# Altium integrated library FPGA Memories.IntLib: 600 symbols (part 3 of 6)
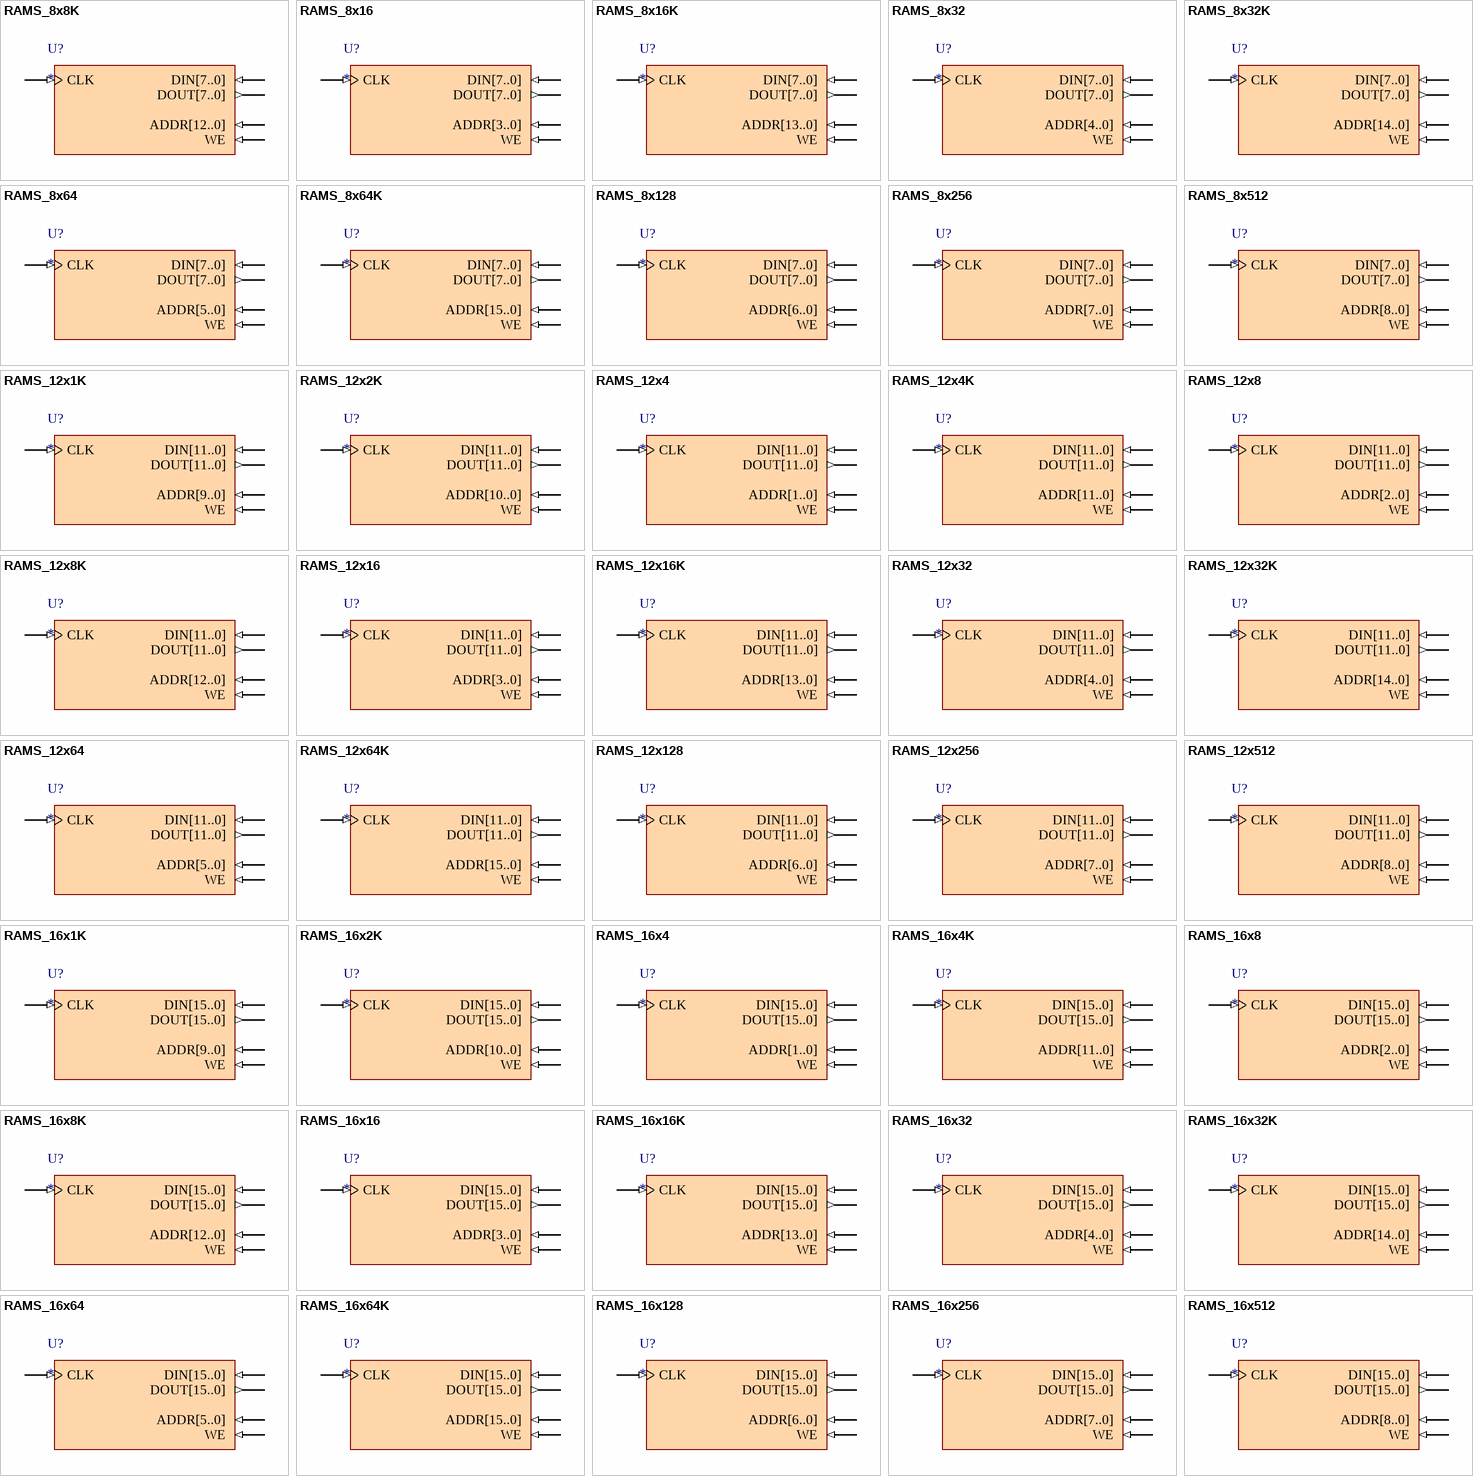
[diagram p22: symbols RAMS_8x8K to RAMS_16x512]

## RAMS_12x2K
designator U?
Single Port RAM; Memory_Depth: 2048; Memory_Type: RAM_SinglePortBlock; Memory_Width: 12; Memory_ClockEdge: Rising; Nexus_Core: Memory_Program; Memory_EnablePin: False; Published: 11/10/2004; Publisher: Altium Hobart Technology Center; Memory_ByteWrites: False
pins: ADDR[10..0] (in), CLK (in), DIN[11..0] (in), DOUT[11..0] (out), WE (in)

## RAMS_12x4
designator U?
Single Port RAM; Memory_Depth: 4; Memory_Type: RAM_SinglePortBlock; Memory_Width: 12; Memory_ClockEdge: Rising; Nexus_Core: Memory_Program; Memory_EnablePin: False; Published: 11/10/2004; Publisher: Altium Hobart Technology Center; Memory_ByteWrites: False
pins: ADDR[1..0] (in), CLK (in), DIN[11..0] (in), DOUT[11..0] (out), WE (in)

## RAMS_12x4K
designator U?
Single Port RAM; Memory_Depth: 4096; Memory_Type: RAM_SinglePortBlock; Memory_Width: 12; Memory_ClockEdge: Rising; Nexus_Core: Memory_Program; Memory_EnablePin: False; Published: 11/10/2004; Publisher: Altium Hobart Technology Center; Memory_ByteWrites: False
pins: ADDR[11..0] (in), CLK (in), DIN[11..0] (in), DOUT[11..0] (out), WE (in)

## RAMS_12x8
designator U?
Single Port RAM; Memory_Depth: 8; Memory_Type: RAM_SinglePortBlock; Memory_Width: 12; Memory_ClockEdge: Rising; Nexus_Core: Memory_Program; Memory_EnablePin: False; Published: 11/10/2004; Publisher: Altium Hobart Technology Center; Memory_ByteWrites: False
pins: ADDR[2..0] (in), CLK (in), DIN[11..0] (in), DOUT[11..0] (out), WE (in)

## RAMS_12x8K
designator U?
Single Port RAM; Memory_Depth: 8192; Memory_Type: RAM_SinglePortBlock; Memory_Width: 12; Memory_ClockEdge: Rising; Nexus_Core: Memory_Program; Memory_EnablePin: False; Published: 11/10/2004; Publisher: Altium Hobart Technology Center; Memory_ByteWrites: False
pins: ADDR[12..0] (in), CLK (in), DIN[11..0] (in), DOUT[11..0] (out), WE (in)

## RAMS_12x16
designator U?
Single Port RAM; Memory_Depth: 16; Memory_Type: RAM_SinglePortBlock; Memory_Width: 12; Memory_ClockEdge: Rising; Nexus_Core: Memory_Program; Memory_EnablePin: False; Published: 11/10/2004; Publisher: Altium Hobart Technology Center; Memory_ByteWrites: False
pins: ADDR[3..0] (in), CLK (in), DIN[11..0] (in), DOUT[11..0] (out), WE (in)

## RAMS_12x16K
designator U?
Single Port RAM; Memory_Depth: 16384; Memory_Type: RAM_SinglePortBlock; Memory_Width: 12; Memory_ClockEdge: Rising; Nexus_Core: Memory_Program; Memory_EnablePin: False; Published: 11/10/2004; Publisher: Altium Hobart Technology Center; Memory_ByteWrites: False
pins: ADDR[13..0] (in), CLK (in), DIN[11..0] (in), DOUT[11..0] (out), WE (in)

## RAMS_12x32
designator U?
Single Port RAM; Memory_Depth: 32; Memory_Type: RAM_SinglePortBlock; Memory_Width: 12; Memory_ClockEdge: Rising; Nexus_Core: Memory_Program; Memory_EnablePin: False; Published: 11/10/2004; Publisher: Altium Hobart Technology Center; Memory_ByteWrites: False
pins: ADDR[4..0] (in), CLK (in), DIN[11..0] (in), DOUT[11..0] (out), WE (in)

## RAMS_12x32K
designator U?
Single Port RAM; Memory_Depth: 32768; Memory_Type: RAM_SinglePortBlock; Memory_Width: 12; Memory_ClockEdge: Rising; Nexus_Core: Memory_Program; Memory_EnablePin: False; Published: 11/10/2004; Publisher: Altium Hobart Technology Center; Memory_ByteWrites: False
pins: ADDR[14..0] (in), CLK (in), DIN[11..0] (in), DOUT[11..0] (out), WE (in)

## RAMS_12x64
designator U?
Single Port RAM; Memory_Depth: 64; Memory_Type: RAM_SinglePortBlock; Memory_Width: 12; Memory_ClockEdge: Rising; Nexus_Core: Memory_Program; Memory_EnablePin: False; Published: 11/10/2004; Publisher: Altium Hobart Technology Center; Memory_ByteWrites: False
pins: ADDR[5..0] (in), CLK (in), DIN[11..0] (in), DOUT[11..0] (out), WE (in)

## RAMS_12x64K
designator U?
Single Port RAM; Memory_Depth: 65536; Memory_Type: RAM_SinglePortBlock; Memory_Width: 12; Memory_ClockEdge: Rising; Nexus_Core: Memory_Program; Memory_EnablePin: False; Published: 11/10/2004; Publisher: Altium Hobart Technology Center; Memory_ByteWrites: False
pins: ADDR[15..0] (in), CLK (in), DIN[11..0] (in), DOUT[11..0] (out), WE (in)

## RAMS_12x128
designator U?
Single Port RAM; Memory_Depth: 128; Memory_Type: RAM_SinglePortBlock; Memory_Width: 12; Memory_ClockEdge: Rising; Nexus_Core: Memory_Program; Memory_EnablePin: False; Published: 11/10/2004; Publisher: Altium Hobart Technology Center; Memory_ByteWrites: False
pins: ADDR[6..0] (in), CLK (in), DIN[11..0] (in), DOUT[11..0] (out), WE (in)

## RAMS_12x256
designator U?
Single Port RAM; Memory_Depth: 256; Memory_Type: RAM_SinglePortBlock; Memory_Width: 12; Memory_ClockEdge: Rising; Nexus_Core: Memory_Program; Memory_EnablePin: False; Published: 11/10/2004; Publisher: Altium Hobart Technology Center; Memory_ByteWrites: False
pins: ADDR[7..0] (in), CLK (in), DIN[11..0] (in), DOUT[11..0] (out), WE (in)

## RAMS_12x512
designator U?
Single Port RAM; Memory_Depth: 512; Memory_Type: RAM_SinglePortBlock; Memory_Width: 12; Memory_ClockEdge: Rising; Nexus_Core: Memory_Program; Memory_EnablePin: False; Published: 11/10/2004; Publisher: Altium Hobart Technology Center; Memory_ByteWrites: False
pins: ADDR[8..0] (in), CLK (in), DIN[11..0] (in), DOUT[11..0] (out), WE (in)

## RAMS_16x1K
designator U?
Single Port RAM; Memory_Depth: 1024; Memory_Type: RAM_SinglePortBlock; Memory_Width: 16; Memory_ClockEdge: Rising; Nexus_Core: Memory_Program; Memory_EnablePin: False; Published: 11/10/2004; Publisher: Altium Hobart Technology Center; Memory_ByteWrites: False
pins: ADDR[9..0] (in), CLK (in), DIN[15..0] (in), DOUT[15..0] (out), WE (in)

## RAMS_16x2K
designator U?
Single Port RAM; Memory_Depth: 2048; Memory_Type: RAM_SinglePortBlock; Memory_Width: 16; Memory_ClockEdge: Rising; Nexus_Core: Memory_Program; Memory_EnablePin: False; Published: 11/10/2004; Publisher: Altium Hobart Technology Center; Memory_ByteWrites: False
pins: ADDR[10..0] (in), CLK (in), DIN[15..0] (in), DOUT[15..0] (out), WE (in)

## RAMS_16x4
designator U?
Single Port RAM; Memory_Depth: 4; Memory_Type: RAM_SinglePortBlock; Memory_Width: 16; Memory_ClockEdge: Rising; Nexus_Core: Memory_Program; Memory_EnablePin: False; Published: 11/10/2004; Publisher: Altium Hobart Technology Center; Memory_ByteWrites: False
pins: ADDR[1..0] (in), CLK (in), DIN[15..0] (in), DOUT[15..0] (out), WE (in)

## RAMS_16x4K
designator U?
Single Port RAM; Memory_Depth: 4096; Memory_Type: RAM_SinglePortBlock; Memory_Width: 16; Memory_ClockEdge: Rising; Nexus_Core: Memory_Program; Memory_EnablePin: False; Published: 11/10/2004; Publisher: Altium Hobart Technology Center; Memory_ByteWrites: False
pins: ADDR[11..0] (in), CLK (in), DIN[15..0] (in), DOUT[15..0] (out), WE (in)

## RAMS_16x8
designator U?
Single Port RAM; Memory_Depth: 8; Memory_Type: RAM_SinglePortBlock; Memory_Width: 16; Memory_ClockEdge: Rising; Nexus_Core: Memory_Program; Memory_EnablePin: False; Published: 11/10/2004; Publisher: Altium Hobart Technology Center; Memory_ByteWrites: False
pins: ADDR[2..0] (in), CLK (in), DIN[15..0] (in), DOUT[15..0] (out), WE (in)

## RAMS_16x8K
designator U?
Single Port RAM; Memory_Depth: 8192; Memory_Type: RAM_SinglePortBlock; Memory_Width: 16; Memory_ClockEdge: Rising; Nexus_Core: Memory_Program; Memory_EnablePin: False; Published: 11/10/2004; Publisher: Altium Hobart Technology Center; Memory_ByteWrites: False
pins: ADDR[12..0] (in), CLK (in), DIN[15..0] (in), DOUT[15..0] (out), WE (in)

## RAMS_16x16
designator U?
Single Port RAM; Memory_Depth: 16; Memory_Type: RAM_SinglePortBlock; Memory_ClockEdge: Rising; Nexus_Core: Memory_Program; Memory_EnablePin: False; Published: 11/10/2004; Publisher: Altium Hobart Technology Center; Memory_Width: 16; Memory_ByteWrites: False
pins: ADDR[3..0] (in), CLK (in), DIN[15..0] (in), DOUT[15..0] (out), WE (in)

## RAMS_16x16K
designator U?
Single Port RAM; Memory_Depth: 16384; Memory_Type: RAM_SinglePortBlock; Memory_Width: 16; Memory_ClockEdge: Rising; Nexus_Core: Memory_Program; Memory_EnablePin: False; Published: 11/10/2004; Publisher: Altium Hobart Technology Center; Memory_ByteWrites: False
pins: ADDR[13..0] (in), CLK (in), DIN[15..0] (in), DOUT[15..0] (out), WE (in)

## RAMS_16x32
designator U?
Single Port RAM; Memory_Depth: 32; Memory_Type: RAM_SinglePortBlock; Memory_Width: 16; Memory_ClockEdge: Rising; Nexus_Core: Memory_Program; Memory_EnablePin: False; Published: 11/10/2004; Publisher: Altium Hobart Technology Center; Memory_ByteWrites: False
pins: ADDR[4..0] (in), CLK (in), DIN[15..0] (in), DOUT[15..0] (out), WE (in)

## RAMS_16x32K
designator U?
Single Port RAM; Memory_Depth: 32768; Memory_Type: RAM_SinglePortBlock; Memory_Width: 16; Memory_ClockEdge: Rising; Nexus_Core: Memory_Program; Memory_EnablePin: False; Published: 11/10/2004; Publisher: Altium Hobart Technology Center; Memory_ByteWrites: False
pins: ADDR[14..0] (in), CLK (in), DIN[15..0] (in), DOUT[15..0] (out), WE (in)

## RAMS_16x64
designator U?
Single Port RAM; Memory_Depth: 64; Memory_Type: RAM_SinglePortBlock; Memory_Width: 16; Memory_ClockEdge: Rising; Nexus_Core: Memory_Program; Memory_EnablePin: False; Published: 11/10/2004; Publisher: Altium Hobart Technology Center; Memory_ByteWrites: False
pins: ADDR[5..0] (in), CLK (in), DIN[15..0] (in), DOUT[15..0] (out), WE (in)

## RAMS_16x64K
designator U?
Single Port RAM; Memory_Depth: 65536; Memory_Type: RAM_SinglePortBlock; Memory_Width: 16; Memory_ClockEdge: Rising; Nexus_Core: Memory_Program; Memory_EnablePin: False; Published: 11/10/2004; Publisher: Altium Hobart Technology Center; Memory_ByteWrites: False
pins: ADDR[15..0] (in), CLK (in), DIN[15..0] (in), DOUT[15..0] (out), WE (in)

## RAMS_16x128
designator U?
Single Port RAM; Memory_Depth: 128; Memory_Type: RAM_SinglePortBlock; Memory_Width: 16; Memory_ClockEdge: Rising; Nexus_Core: Memory_Program; Memory_EnablePin: False; Published: 11/10/2004; Publisher: Altium Hobart Technology Center; Memory_ByteWrites: False
pins: ADDR[6..0] (in), CLK (in), DIN[15..0] (in), DOUT[15..0] (out), WE (in)

## RAMS_16x256
designator U?
Single Port RAM; Memory_Depth: 256; Memory_Type: RAM_SinglePortBlock; Memory_Width: 16; Memory_ClockEdge: Rising; Nexus_Core: Memory_Program; Memory_EnablePin: False; Published: 11/10/2004; Publisher: Altium Hobart Technology Center; Memory_ByteWrites: False
pins: ADDR[7..0] (in), CLK (in), DIN[15..0] (in), DOUT[15..0] (out), WE (in)

## RAMS_16x512
designator U?
Single Port RAM; Memory_Depth: 512; Memory_Type: RAM_SinglePortBlock; Memory_Width: 16; Memory_ClockEdge: Rising; Nexus_Core: Memory_Program; Memory_EnablePin: False; Published: 11/10/2004; Publisher: Altium Hobart Technology Center; Memory_ByteWrites: False
pins: ADDR[8..0] (in), CLK (in), DIN[15..0] (in), DOUT[15..0] (out), WE (in)

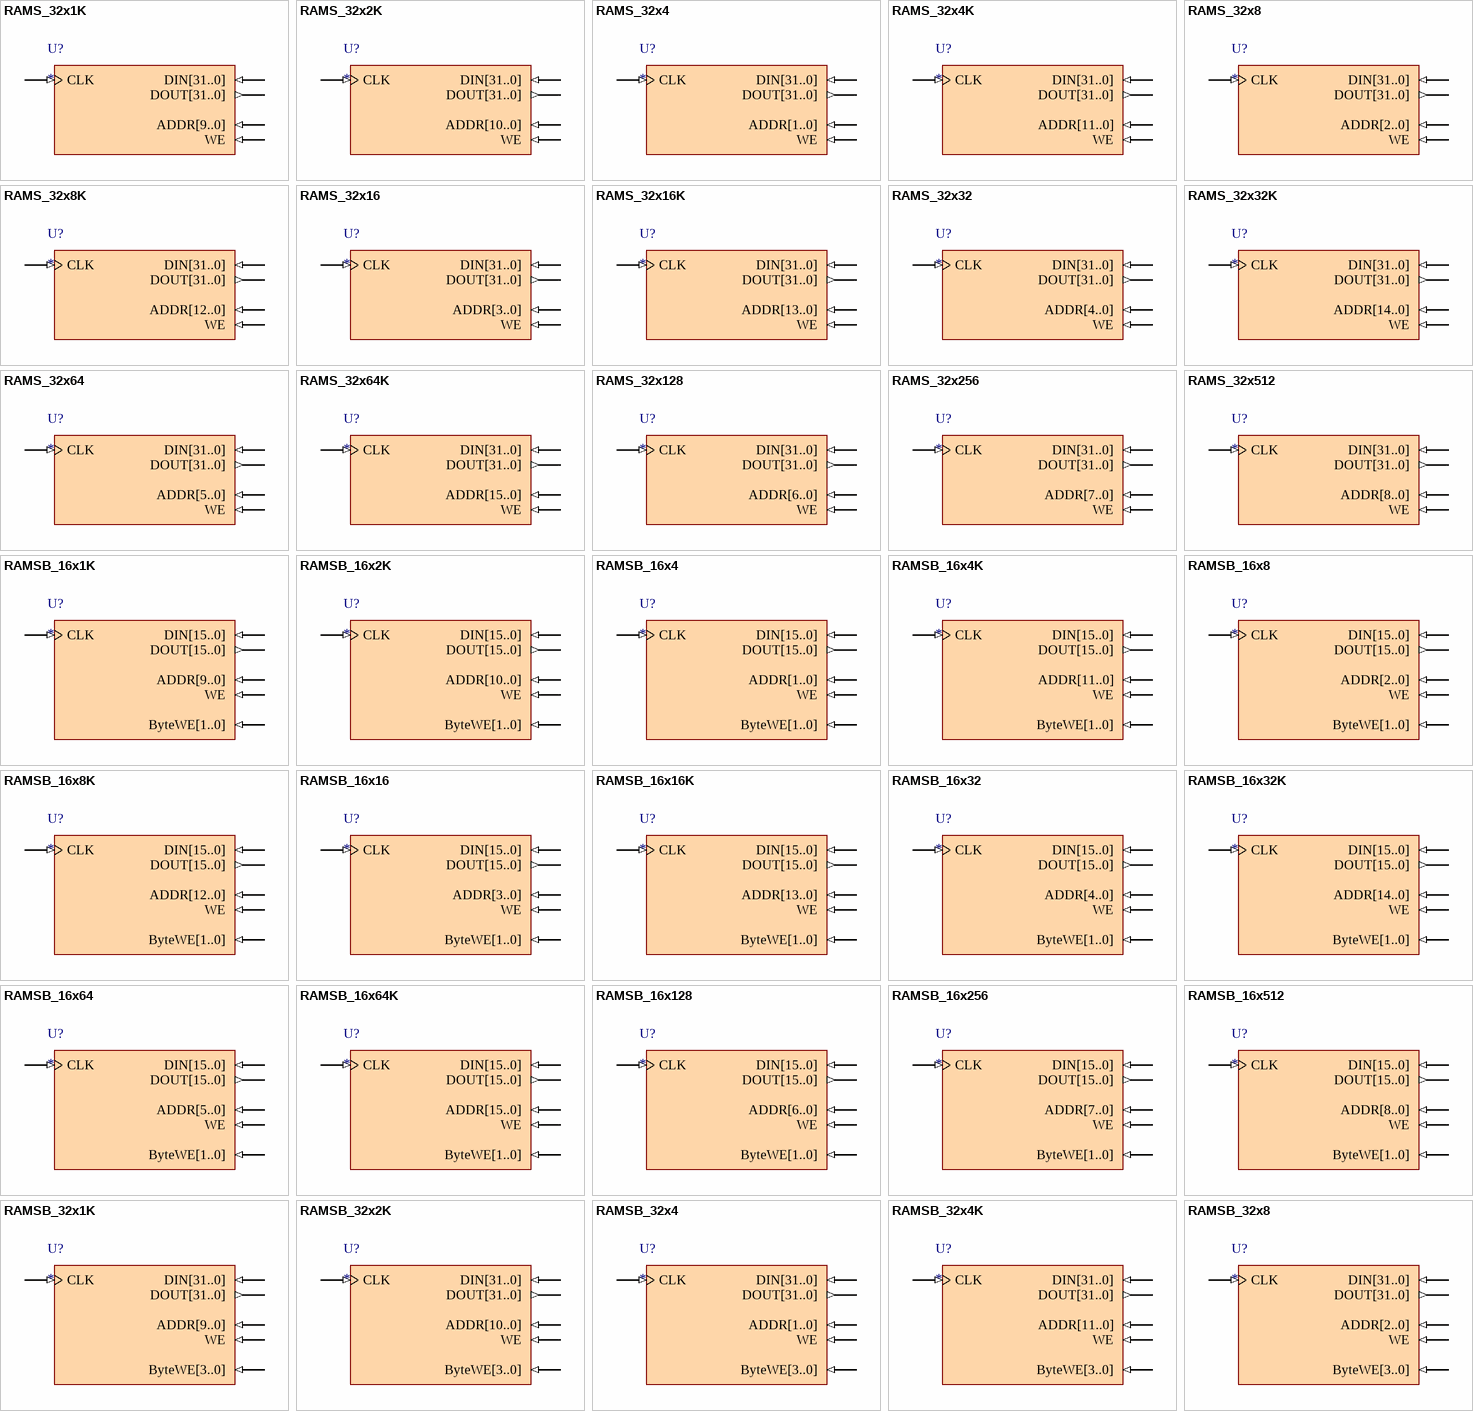
[diagram p9: symbols RAMS_32x1K to RAMSB_32x8]

## RAMS_32x1K
designator U?
Single Port RAM; Memory_Depth: 1024; Memory_Type: RAM_SinglePortBlock; Memory_Width: 32; Memory_ClockEdge: Rising; Nexus_Core: Memory_Program; Memory_EnablePin: False; Published: 11/10/2004; Publisher: Altium Hobart Technology Center; Memory_ByteWrites: False
pins: ADDR[9..0] (in), CLK (in), DIN[31..0] (in), DOUT[31..0] (out), WE (in)

## RAMS_32x2K
designator U?
Single Port RAM; Memory_Depth: 2048; Memory_Type: RAM_SinglePortBlock; Memory_Width: 32; Memory_ClockEdge: Rising; Nexus_Core: Memory_Program; Memory_EnablePin: False; Published: 11/10/2004; Publisher: Altium Hobart Technology Center; Memory_ByteWrites: False
pins: ADDR[10..0] (in), CLK (in), DIN[31..0] (in), DOUT[31..0] (out), WE (in)

## RAMS_32x4
designator U?
Single Port RAM; Memory_Depth: 4; Memory_Type: RAM_SinglePortBlock; Memory_Width: 32; Memory_ClockEdge: Rising; Nexus_Core: Memory_Program; Memory_EnablePin: False; Published: 11/10/2004; Publisher: Altium Hobart Technology Center; Memory_ByteWrites: False
pins: ADDR[1..0] (in), CLK (in), DIN[31..0] (in), DOUT[31..0] (out), WE (in)

## RAMS_32x4K
designator U?
Single Port RAM; Memory_Depth: 4096; Memory_Type: RAM_SinglePortBlock; Memory_Width: 32; Memory_ClockEdge: Rising; Nexus_Core: Memory_Program; Memory_EnablePin: False; Published: 11/10/2004; Publisher: Altium Hobart Technology Center; Memory_ByteWrites: False
pins: ADDR[11..0] (in), CLK (in), DIN[31..0] (in), DOUT[31..0] (out), WE (in)

## RAMS_32x8
designator U?
Single Port RAM; Memory_Depth: 8; Memory_Type: RAM_SinglePortBlock; Memory_Width: 32; Memory_ClockEdge: Rising; Nexus_Core: Memory_Program; Memory_EnablePin: False; Published: 11/10/2004; Publisher: Altium Hobart Technology Center; Memory_ByteWrites: False
pins: ADDR[2..0] (in), CLK (in), DIN[31..0] (in), DOUT[31..0] (out), WE (in)

## RAMS_32x8K
designator U?
Single Port RAM; Memory_Depth: 8192; Memory_Type: RAM_SinglePortBlock; Memory_Width: 32; Memory_ClockEdge: Rising; Nexus_Core: Memory_Program; Memory_EnablePin: False; Published: 11/10/2004; Publisher: Altium Hobart Technology Center; Memory_ByteWrites: False
pins: ADDR[12..0] (in), CLK (in), DIN[31..0] (in), DOUT[31..0] (out), WE (in)

## RAMS_32x16
designator U?
Single Port RAM; Memory_Depth: 16; Memory_Type: RAM_SinglePortBlock; Memory_Width: 32; Memory_ClockEdge: Rising; Nexus_Core: Memory_Program; Memory_EnablePin: False; Published: 11/10/2004; Publisher: Altium Hobart Technology Center; Memory_ByteWrites: False
pins: ADDR[3..0] (in), CLK (in), DIN[31..0] (in), DOUT[31..0] (out), WE (in)

## RAMS_32x16K
designator U?
Single Port RAM; Memory_Depth: 16384; Memory_Type: RAM_SinglePortBlock; Memory_Width: 32; Memory_ClockEdge: Rising; Nexus_Core: Memory_Program; Memory_EnablePin: False; Published: 11/10/2004; Publisher: Altium Hobart Technology Center; Memory_ByteWrites: False
pins: ADDR[13..0] (in), CLK (in), DIN[31..0] (in), DOUT[31..0] (out), WE (in)

## RAMS_32x32
designator U?
Single Port RAM; Memory_Depth: 32; Memory_Type: RAM_SinglePortBlock; Memory_ClockEdge: Rising; Nexus_Core: Memory_Program; Memory_EnablePin: False; Published: 11/10/2004; Publisher: Altium Hobart Technology Center; Memory_Width: 32; Memory_ByteWrites: False
pins: ADDR[4..0] (in), CLK (in), DIN[31..0] (in), DOUT[31..0] (out), WE (in)

## RAMS_32x32K
designator U?
Single Port RAM; Memory_Depth: 32768; Memory_Type: RAM_SinglePortBlock; Memory_Width: 32; Memory_ClockEdge: Rising; Nexus_Core: Memory_Program; Memory_EnablePin: False; Published: 11/10/2004; Publisher: Altium Hobart Technology Center; Memory_ByteWrites: False
pins: ADDR[14..0] (in), CLK (in), DIN[31..0] (in), DOUT[31..0] (out), WE (in)

## RAMS_32x64
designator U?
Single Port RAM; Memory_Depth: 64; Memory_Type: RAM_SinglePortBlock; Memory_Width: 32; Memory_ClockEdge: Rising; Nexus_Core: Memory_Program; Memory_EnablePin: False; Published: 11/10/2004; Publisher: Altium Hobart Technology Center; Memory_ByteWrites: False
pins: ADDR[5..0] (in), CLK (in), DIN[31..0] (in), DOUT[31..0] (out), WE (in)

## RAMS_32x64K
designator U?
Single Port RAM; Memory_Depth: 65536; Memory_Type: RAM_SinglePortBlock; Memory_Width: 32; Memory_ClockEdge: Rising; Nexus_Core: Memory_Program; Memory_EnablePin: False; Published: 11/10/2004; Publisher: Altium Hobart Technology Center; Memory_ByteWrites: False
pins: ADDR[15..0] (in), CLK (in), DIN[31..0] (in), DOUT[31..0] (out), WE (in)

## RAMS_32x128
designator U?
Single Port RAM; Memory_Depth: 128; Memory_Type: RAM_SinglePortBlock; Memory_Width: 32; Memory_ClockEdge: Rising; Nexus_Core: Memory_Program; Memory_EnablePin: False; Published: 11/10/2004; Publisher: Altium Hobart Technology Center; Memory_ByteWrites: False
pins: ADDR[6..0] (in), CLK (in), DIN[31..0] (in), DOUT[31..0] (out), WE (in)

## RAMS_32x256
designator U?
Single Port RAM; Memory_Depth: 256; Memory_Type: RAM_SinglePortBlock; Memory_Width: 32; Memory_ClockEdge: Rising; Nexus_Core: Memory_Program; Memory_EnablePin: False; Published: 11/10/2004; Publisher: Altium Hobart Technology Center; Memory_ByteWrites: False
pins: ADDR[7..0] (in), CLK (in), DIN[31..0] (in), DOUT[31..0] (out), WE (in)

## RAMS_32x512
designator U?
Single Port RAM; Memory_Depth: 512; Memory_Type: RAM_SinglePortBlock; Memory_Width: 32; Memory_ClockEdge: Rising; Nexus_Core: Memory_Program; Memory_EnablePin: False; Published: 11/10/2004; Publisher: Altium Hobart Technology Center; Memory_ByteWrites: False
pins: ADDR[8..0] (in), CLK (in), DIN[31..0] (in), DOUT[31..0] (out), WE (in)

## RAMSB_16x1K
designator U?
Single Port RAM, Byte Write Enable; Memory_Depth: 1024; Memory_Type: RAM_SinglePortBlock; Memory_Width: 16; Memory_ClockEdge: Rising; Nexus_Core: Memory_Program; Memory_EnablePin: False; Memory_ByteWrites: True; Published: 11/10/2004; Publisher: Altium Hobart Technology Center
pins: ADDR[9..0] (in), ByteWE[1..0] (in), CLK (in), DIN[15..0] (in), DOUT[15..0] (out), WE (in)

## RAMSB_16x2K
designator U?
Single Port RAM, Byte Write Enable; Memory_Depth: 2048; Memory_Type: RAM_SinglePortBlock; Memory_Width: 16; Memory_ClockEdge: Rising; Nexus_Core: Memory_Program; Memory_EnablePin: False; Memory_ByteWrites: True; Published: 11/10/2004; Publisher: Altium Hobart Technology Center
pins: ADDR[10..0] (in), ByteWE[1..0] (in), CLK (in), DIN[15..0] (in), DOUT[15..0] (out), WE (in)

## RAMSB_16x4
designator U?
Single Port RAM, Byte Write Enable; Memory_Depth: 4; Memory_Type: RAM_SinglePortBlock; Memory_Width: 16; Memory_ClockEdge: Rising; Nexus_Core: Memory_Program; Memory_EnablePin: False; Memory_ByteWrites: True; Published: 11/10/2004; Publisher: Altium Hobart Technology Center
pins: ADDR[1..0] (in), ByteWE[1..0] (in), CLK (in), DIN[15..0] (in), DOUT[15..0] (out), WE (in)

## RAMSB_16x4K
designator U?
Single Port RAM, Byte Write Enable; Memory_Depth: 4096; Memory_Type: RAM_SinglePortBlock; Memory_Width: 16; Memory_ClockEdge: Rising; Nexus_Core: Memory_Program; Memory_EnablePin: False; Memory_ByteWrites: True; Published: 11/10/2004; Publisher: Altium Hobart Technology Center
pins: ADDR[11..0] (in), ByteWE[1..0] (in), CLK (in), DIN[15..0] (in), DOUT[15..0] (out), WE (in)

## RAMSB_16x8
designator U?
Single Port RAM, Byte Write Enable; Memory_Depth: 8; Memory_Type: RAM_SinglePortBlock; Memory_Width: 16; Memory_ClockEdge: Rising; Nexus_Core: Memory_Program; Memory_EnablePin: False; Memory_ByteWrites: True; Published: 11/10/2004; Publisher: Altium Hobart Technology Center
pins: ADDR[2..0] (in), ByteWE[1..0] (in), CLK (in), DIN[15..0] (in), DOUT[15..0] (out), WE (in)

## RAMSB_16x8K
designator U?
Single Port RAM, Byte Write Enable; Memory_Depth: 8192; Memory_Type: RAM_SinglePortBlock; Memory_Width: 16; Memory_ClockEdge: Rising; Nexus_Core: Memory_Program; Memory_EnablePin: False; Memory_ByteWrites: True; Published: 11/10/2004; Publisher: Altium Hobart Technology Center
pins: ADDR[12..0] (in), ByteWE[1..0] (in), CLK (in), DIN[15..0] (in), DOUT[15..0] (out), WE (in)

## RAMSB_16x16
designator U?
Single Port RAM, Byte Write Enable; Memory_Depth: 16; Memory_Type: RAM_SinglePortBlock; Memory_ClockEdge: Rising; Nexus_Core: Memory_Program; Memory_EnablePin: False; Memory_ByteWrites: True; Published: 11/10/2004; Publisher: Altium Hobart Technology Center; Memory_Width: 16
pins: ADDR[3..0] (in), ByteWE[1..0] (in), CLK (in), DIN[15..0] (in), DOUT[15..0] (out), WE (in)

## RAMSB_16x16K
designator U?
Single Port RAM, Byte Write Enable; Memory_Depth: 16384; Memory_Type: RAM_SinglePortBlock; Memory_Width: 16; Memory_ClockEdge: Rising; Nexus_Core: Memory_Program; Memory_EnablePin: False; Memory_ByteWrites: True; Published: 11/10/2004; Publisher: Altium Hobart Technology Center
pins: ADDR[13..0] (in), ByteWE[1..0] (in), CLK (in), DIN[15..0] (in), DOUT[15..0] (out), WE (in)

## RAMSB_16x32
designator U?
Single Port RAM, Byte Write Enable; Memory_Depth: 32; Memory_Type: RAM_SinglePortBlock; Memory_Width: 16; Memory_ClockEdge: Rising; Nexus_Core: Memory_Program; Memory_EnablePin: False; Memory_ByteWrites: True; Published: 11/10/2004; Publisher: Altium Hobart Technology Center
pins: ADDR[4..0] (in), ByteWE[1..0] (in), CLK (in), DIN[15..0] (in), DOUT[15..0] (out), WE (in)

## RAMSB_16x32K
designator U?
Single Port RAM, Byte Write Enable; Memory_Depth: 32768; Memory_Type: RAM_SinglePortBlock; Memory_Width: 16; Memory_ClockEdge: Rising; Nexus_Core: Memory_Program; Memory_EnablePin: False; Memory_ByteWrites: True; Published: 11/10/2004; Publisher: Altium Hobart Technology Center
pins: ADDR[14..0] (in), ByteWE[1..0] (in), CLK (in), DIN[15..0] (in), DOUT[15..0] (out), WE (in)

## RAMSB_16x64
designator U?
Single Port RAM, Byte Write Enable; Memory_Depth: 64; Memory_Type: RAM_SinglePortBlock; Memory_Width: 16; Memory_ClockEdge: Rising; Nexus_Core: Memory_Program; Memory_EnablePin: False; Memory_ByteWrites: True; Published: 11/10/2004; Publisher: Altium Hobart Technology Center
pins: ADDR[5..0] (in), ByteWE[1..0] (in), CLK (in), DIN[15..0] (in), DOUT[15..0] (out), WE (in)

## RAMSB_16x64K
designator U?
Single Port RAM, Byte Write Enable; Memory_Depth: 65536; Memory_Type: RAM_SinglePortBlock; Memory_Width: 16; Memory_ClockEdge: Rising; Nexus_Core: Memory_Program; Memory_EnablePin: False; Memory_ByteWrites: True; Published: 11/10/2004; Publisher: Altium Hobart Technology Center
pins: ADDR[15..0] (in), ByteWE[1..0] (in), CLK (in), DIN[15..0] (in), DOUT[15..0] (out), WE (in)

## RAMSB_16x128
designator U?
Single Port RAM, Byte Write Enable; Memory_Depth: 128; Memory_Type: RAM_SinglePortBlock; Memory_Width: 16; Memory_ClockEdge: Rising; Nexus_Core: Memory_Program; Memory_EnablePin: False; Memory_ByteWrites: True; Published: 11/10/2004; Publisher: Altium Hobart Technology Center
pins: ADDR[6..0] (in), ByteWE[1..0] (in), CLK (in), DIN[15..0] (in), DOUT[15..0] (out), WE (in)

## RAMSB_16x256
designator U?
Single Port RAM, Byte Write Enable; Memory_Depth: 256; Memory_Type: RAM_SinglePortBlock; Memory_Width: 16; Memory_ClockEdge: Rising; Nexus_Core: Memory_Program; Memory_EnablePin: False; Memory_ByteWrites: True; Published: 11/10/2004; Publisher: Altium Hobart Technology Center
pins: ADDR[7..0] (in), ByteWE[1..0] (in), CLK (in), DIN[15..0] (in), DOUT[15..0] (out), WE (in)

## RAMSB_16x512
designator U?
Single Port RAM, Byte Write Enable; Memory_Depth: 512; Memory_Type: RAM_SinglePortBlock; Memory_Width: 16; Memory_ClockEdge: Rising; Nexus_Core: Memory_Program; Memory_EnablePin: False; Memory_ByteWrites: True; Published: 11/10/2004; Publisher: Altium Hobart Technology Center
pins: ADDR[8..0] (in), ByteWE[1..0] (in), CLK (in), DIN[15..0] (in), DOUT[15..0] (out), WE (in)

## RAMSB_32x1K
designator U?
Single Port RAM, Byte Write Enable; Memory_Depth: 1024; Memory_Type: RAM_SinglePortBlock; Memory_Width: 32; Memory_ClockEdge: Rising; Nexus_Core: Memory_Program; Memory_EnablePin: False; Memory_ByteWrites: True; Published: 11/10/2004; Publisher: Altium Hobart Technology Center
pins: ADDR[9..0] (in), ByteWE[3..0] (in), CLK (in), DIN[31..0] (in), DOUT[31..0] (out), WE (in)

## RAMSB_32x2K
designator U?
Single Port RAM, Byte Write Enable; Memory_Depth: 2048; Memory_Type: RAM_SinglePortBlock; Memory_Width: 32; Memory_ClockEdge: Rising; Nexus_Core: Memory_Program; Memory_EnablePin: False; Memory_ByteWrites: True; Published: 11/10/2004; Publisher: Altium Hobart Technology Center
pins: ADDR[10..0] (in), ByteWE[3..0] (in), CLK (in), DIN[31..0] (in), DOUT[31..0] (out), WE (in)

## RAMSB_32x4
designator U?
Single Port RAM, Byte Write Enable; Memory_Depth: 4; Memory_Type: RAM_SinglePortBlock; Memory_Width: 32; Memory_ClockEdge: Rising; Nexus_Core: Memory_Program; Memory_EnablePin: False; Memory_ByteWrites: True; Published: 11/10/2004; Publisher: Altium Hobart Technology Center
pins: ADDR[1..0] (in), ByteWE[3..0] (in), CLK (in), DIN[31..0] (in), DOUT[31..0] (out), WE (in)

## RAMSB_32x4K
designator U?
Single Port RAM, Byte Write Enable; Memory_Depth: 4096; Memory_Type: RAM_SinglePortBlock; Memory_Width: 32; Memory_ClockEdge: Rising; Nexus_Core: Memory_Program; Memory_EnablePin: False; Memory_ByteWrites: True; Published: 11/10/2004; Publisher: Altium Hobart Technology Center
pins: ADDR[11..0] (in), ByteWE[3..0] (in), CLK (in), DIN[31..0] (in), DOUT[31..0] (out), WE (in)

## RAMSB_32x8
designator U?
Single Port RAM, Byte Write Enable; Memory_Depth: 8; Memory_Type: RAM_SinglePortBlock; Memory_Width: 32; Memory_ClockEdge: Rising; Nexus_Core: Memory_Program; Memory_EnablePin: False; Memory_ByteWrites: True; Published: 11/10/2004; Publisher: Altium Hobart Technology Center
pins: ADDR[2..0] (in), ByteWE[3..0] (in), CLK (in), DIN[31..0] (in), DOUT[31..0] (out), WE (in)

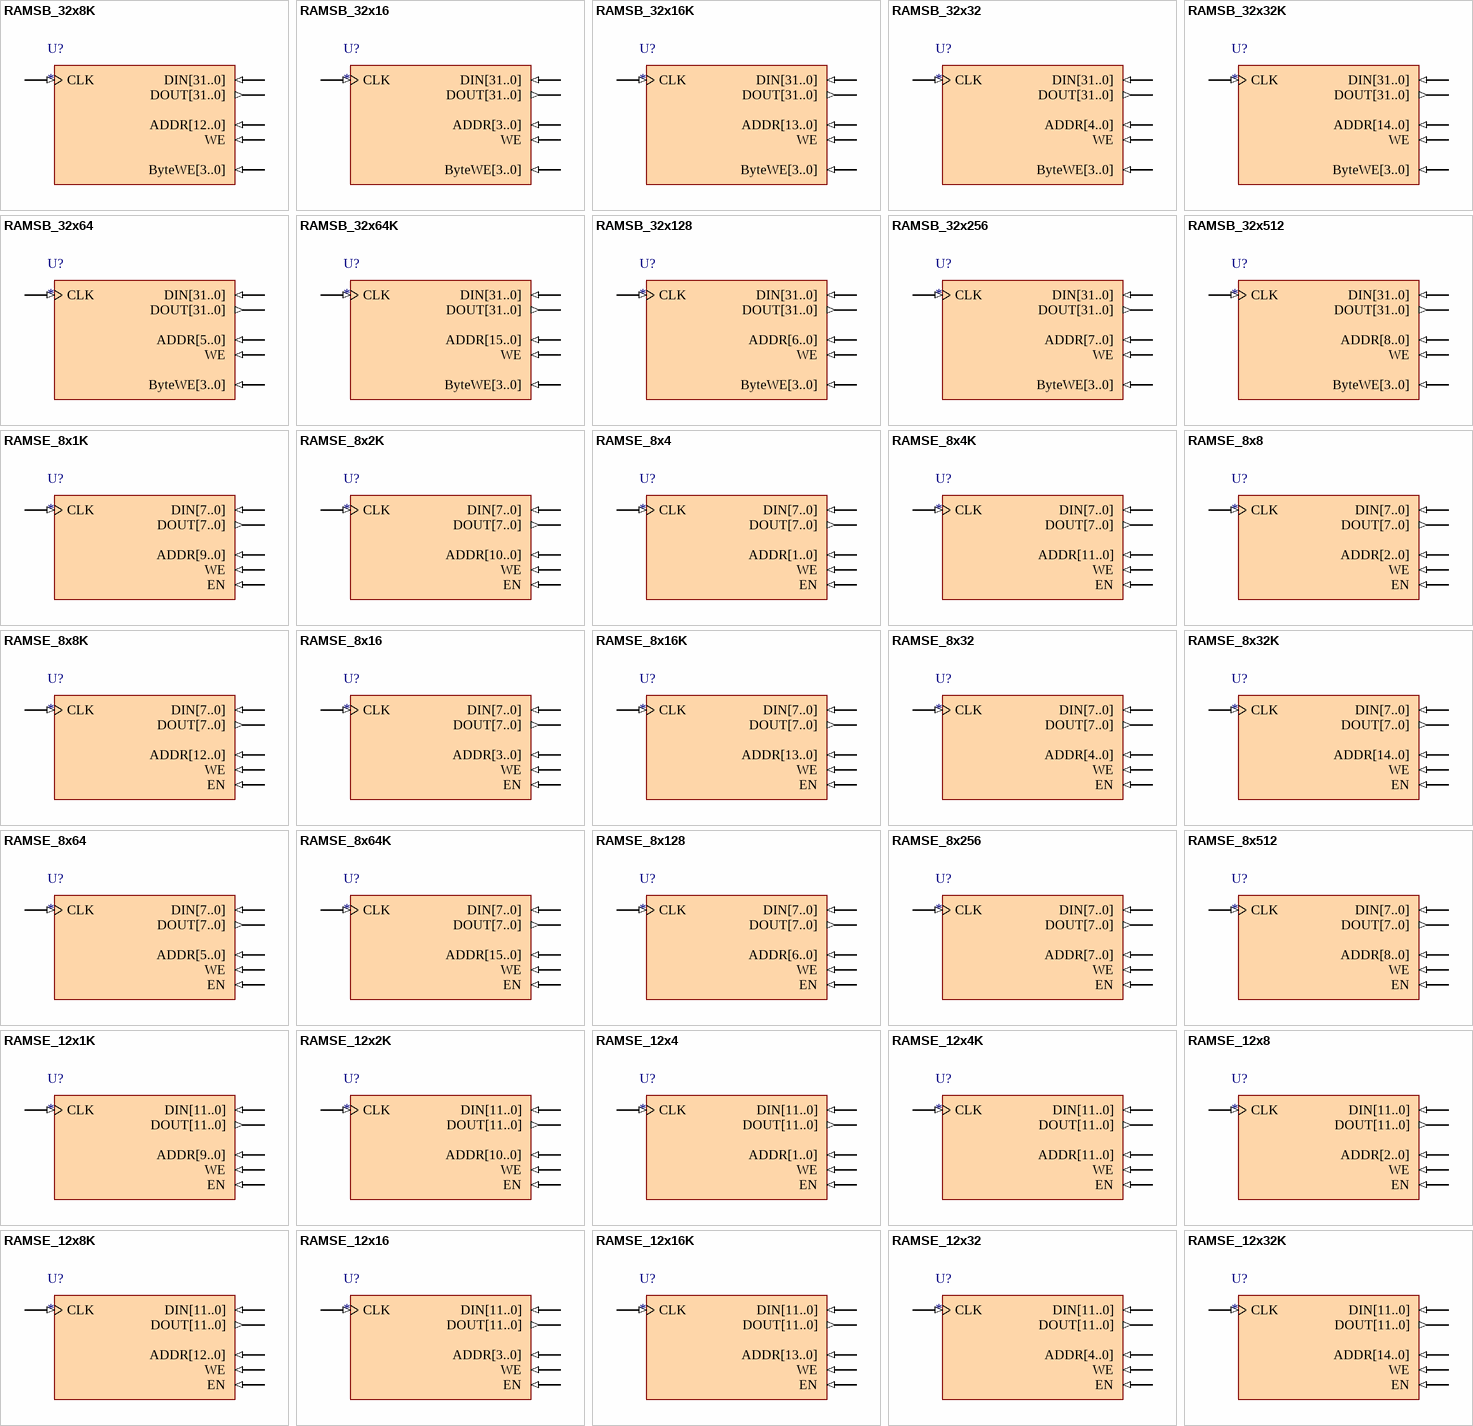
[diagram p10: symbols RAMSB_32x8K to RAMSE_12x32K]

## RAMSB_32x8K
designator U?
Single Port RAM, Byte Write Enable; Memory_Depth: 8192; Memory_Type: RAM_SinglePortBlock; Memory_Width: 32; Memory_ClockEdge: Rising; Nexus_Core: Memory_Program; Memory_EnablePin: False; Memory_ByteWrites: True; Published: 11/10/2004; Publisher: Altium Hobart Technology Center
pins: ADDR[12..0] (in), ByteWE[3..0] (in), CLK (in), DIN[31..0] (in), DOUT[31..0] (out), WE (in)

## RAMSB_32x16
designator U?
Single Port RAM, Byte Write Enable; Memory_Depth: 16; Memory_Type: RAM_SinglePortBlock; Memory_Width: 32; Memory_ClockEdge: Rising; Nexus_Core: Memory_Program; Memory_EnablePin: False; Memory_ByteWrites: True; Published: 11/10/2004; Publisher: Altium Hobart Technology Center
pins: ADDR[3..0] (in), ByteWE[3..0] (in), CLK (in), DIN[31..0] (in), DOUT[31..0] (out), WE (in)

## RAMSB_32x16K
designator U?
Single Port RAM, Byte Write Enable; Memory_Depth: 16384; Memory_Type: RAM_SinglePortBlock; Memory_Width: 32; Memory_ClockEdge: Rising; Nexus_Core: Memory_Program; Memory_EnablePin: False; Memory_ByteWrites: True; Published: 11/10/2004; Publisher: Altium Hobart Technology Center
pins: ADDR[13..0] (in), ByteWE[3..0] (in), CLK (in), DIN[31..0] (in), DOUT[31..0] (out), WE (in)

## RAMSB_32x32
designator U?
Single Port RAM, Byte Write Enable; Memory_Depth: 32; Memory_Type: RAM_SinglePortBlock; Memory_ClockEdge: Rising; Nexus_Core: Memory_Program; Memory_EnablePin: False; Memory_ByteWrites: True; Published: 11/10/2004; Publisher: Altium Hobart Technology Center; Memory_Width: 32
pins: ADDR[4..0] (in), ByteWE[3..0] (in), CLK (in), DIN[31..0] (in), DOUT[31..0] (out), WE (in)

## RAMSB_32x32K
designator U?
Single Port RAM, Byte Write Enable; Memory_Depth: 32768; Memory_Type: RAM_SinglePortBlock; Memory_Width: 32; Memory_ClockEdge: Rising; Nexus_Core: Memory_Program; Memory_EnablePin: False; Memory_ByteWrites: True; Published: 11/10/2004; Publisher: Altium Hobart Technology Center
pins: ADDR[14..0] (in), ByteWE[3..0] (in), CLK (in), DIN[31..0] (in), DOUT[31..0] (out), WE (in)

## RAMSB_32x64
designator U?
Single Port RAM, Byte Write Enable; Memory_Depth: 64; Memory_Type: RAM_SinglePortBlock; Memory_Width: 32; Memory_ClockEdge: Rising; Nexus_Core: Memory_Program; Memory_EnablePin: False; Memory_ByteWrites: True; Published: 11/10/2004; Publisher: Altium Hobart Technology Center
pins: ADDR[5..0] (in), ByteWE[3..0] (in), CLK (in), DIN[31..0] (in), DOUT[31..0] (out), WE (in)

## RAMSB_32x64K
designator U?
Single Port RAM, Byte Write Enable; Memory_Depth: 65536; Memory_Type: RAM_SinglePortBlock; Memory_Width: 32; Memory_ClockEdge: Rising; Nexus_Core: Memory_Program; Memory_EnablePin: False; Memory_ByteWrites: True; Published: 11/10/2004; Publisher: Altium Hobart Technology Center
pins: ADDR[15..0] (in), ByteWE[3..0] (in), CLK (in), DIN[31..0] (in), DOUT[31..0] (out), WE (in)

## RAMSB_32x128
designator U?
Single Port RAM, Byte Write Enable; Memory_Depth: 128; Memory_Type: RAM_SinglePortBlock; Memory_Width: 32; Memory_ClockEdge: Rising; Nexus_Core: Memory_Program; Memory_EnablePin: False; Memory_ByteWrites: True; Published: 11/10/2004; Publisher: Altium Hobart Technology Center
pins: ADDR[6..0] (in), ByteWE[3..0] (in), CLK (in), DIN[31..0] (in), DOUT[31..0] (out), WE (in)

## RAMSB_32x256
designator U?
Single Port RAM, Byte Write Enable; Memory_Depth: 256; Memory_Type: RAM_SinglePortBlock; Memory_Width: 32; Memory_ClockEdge: Rising; Nexus_Core: Memory_Program; Memory_EnablePin: False; Memory_ByteWrites: True; Published: 11/10/2004; Publisher: Altium Hobart Technology Center
pins: ADDR[7..0] (in), ByteWE[3..0] (in), CLK (in), DIN[31..0] (in), DOUT[31..0] (out), WE (in)

## RAMSB_32x512
designator U?
Single Port RAM, Byte Write Enable; Memory_Depth: 512; Memory_Type: RAM_SinglePortBlock; Memory_Width: 32; Memory_ClockEdge: Rising; Nexus_Core: Memory_Program; Memory_EnablePin: False; Memory_ByteWrites: True; Published: 11/10/2004; Publisher: Altium Hobart Technology Center
pins: ADDR[8..0] (in), ByteWE[3..0] (in), CLK (in), DIN[31..0] (in), DOUT[31..0] (out), WE (in)

## RAMSE_8x1K
designator U?
Single Port RAM, Enable; Memory_Depth: 1024; Memory_Type: RAM_SinglePortBlock; Memory_Width: 8; Memory_ClockEdge: Rising; Nexus_Core: Memory_Program; Memory_EnablePin: True; Memory_ByteWrites: False; Published: 11/10/2004; Publisher: Altium Hobart Technology Center
pins: ADDR[9..0] (in), CLK (in), DIN[7..0] (in), DOUT[7..0] (out), EN (in), WE (in)

## RAMSE_8x2K
designator U?
Single Port RAM, Enable; Memory_Depth: 2048; Memory_Type: RAM_SinglePortBlock; Memory_Width: 8; Memory_ClockEdge: Rising; Nexus_Core: Memory_Program; Memory_EnablePin: True; Memory_ByteWrites: False; Published: 11/10/2004; Publisher: Altium Hobart Technology Center
pins: ADDR[10..0] (in), CLK (in), DIN[7..0] (in), DOUT[7..0] (out), EN (in), WE (in)

## RAMSE_8x4
designator U?
Single Port RAM, Enable; Memory_Depth: 4; Memory_Type: RAM_SinglePortBlock; Memory_Width: 8; Memory_ClockEdge: Rising; Nexus_Core: Memory_Program; Memory_EnablePin: True; Memory_ByteWrites: False; Published: 11/10/2004; Publisher: Altium Hobart Technology Center
pins: ADDR[1..0] (in), CLK (in), DIN[7..0] (in), DOUT[7..0] (out), EN (in), WE (in)

## RAMSE_8x4K
designator U?
Single Port RAM, Enable; Memory_Depth: 4096; Memory_Type: RAM_SinglePortBlock; Memory_Width: 8; Memory_ClockEdge: Rising; Nexus_Core: Memory_Program; Memory_EnablePin: True; Memory_ByteWrites: False; Published: 11/10/2004; Publisher: Altium Hobart Technology Center
pins: ADDR[11..0] (in), CLK (in), DIN[7..0] (in), DOUT[7..0] (out), EN (in), WE (in)

## RAMSE_8x8
designator U?
Single Port RAM, Enable; Memory_Depth: 8; Memory_Type: RAM_SinglePortBlock; Memory_ClockEdge: Rising; Nexus_Core: Memory_Program; Memory_EnablePin: True; Memory_ByteWrites: False; Published: 11/10/2004; Publisher: Altium Hobart Technology Center; Memory_Width: 8
pins: ADDR[2..0] (in), CLK (in), DIN[7..0] (in), DOUT[7..0] (out), EN (in), WE (in)

## RAMSE_8x8K
designator U?
Single Port RAM, Enable; Memory_Depth: 8192; Memory_Type: RAM_SinglePortBlock; Memory_Width: 8; Memory_ClockEdge: Rising; Nexus_Core: Memory_Program; Memory_EnablePin: True; Memory_ByteWrites: False; Published: 11/10/2004; Publisher: Altium Hobart Technology Center
pins: ADDR[12..0] (in), CLK (in), DIN[7..0] (in), DOUT[7..0] (out), EN (in), WE (in)

## RAMSE_8x16
designator U?
Single Port RAM, Enable; Memory_Depth: 16; Memory_Type: RAM_SinglePortBlock; Memory_Width: 8; Memory_ClockEdge: Rising; Nexus_Core: Memory_Program; Memory_EnablePin: True; Memory_ByteWrites: False; Published: 11/10/2004; Publisher: Altium Hobart Technology Center
pins: ADDR[3..0] (in), CLK (in), DIN[7..0] (in), DOUT[7..0] (out), EN (in), WE (in)

## RAMSE_8x16K
designator U?
Single Port RAM, Enable; Memory_Depth: 16384; Memory_Type: RAM_SinglePortBlock; Memory_Width: 8; Memory_ClockEdge: Rising; Nexus_Core: Memory_Program; Memory_EnablePin: True; Memory_ByteWrites: False; Published: 11/10/2004; Publisher: Altium Hobart Technology Center
pins: ADDR[13..0] (in), CLK (in), DIN[7..0] (in), DOUT[7..0] (out), EN (in), WE (in)

## RAMSE_8x32
designator U?
Single Port RAM, Enable; Memory_Depth: 32; Memory_Type: RAM_SinglePortBlock; Memory_Width: 8; Memory_ClockEdge: Rising; Nexus_Core: Memory_Program; Memory_EnablePin: True; Memory_ByteWrites: False; Published: 11/10/2004; Publisher: Altium Hobart Technology Center
pins: ADDR[4..0] (in), CLK (in), DIN[7..0] (in), DOUT[7..0] (out), EN (in), WE (in)

## RAMSE_8x32K
designator U?
Single Port RAM, Enable; Memory_Depth: 32768; Memory_Type: RAM_SinglePortBlock; Memory_Width: 8; Memory_ClockEdge: Rising; Nexus_Core: Memory_Program; Memory_EnablePin: True; Memory_ByteWrites: False; Published: 11/10/2004; Publisher: Altium Hobart Technology Center
pins: ADDR[14..0] (in), CLK (in), DIN[7..0] (in), DOUT[7..0] (out), EN (in), WE (in)

## RAMSE_8x64
designator U?
Single Port RAM, Enable; Memory_Depth: 64; Memory_Type: RAM_SinglePortBlock; Memory_Width: 8; Memory_ClockEdge: Rising; Nexus_Core: Memory_Program; Memory_EnablePin: True; Memory_ByteWrites: False; Published: 11/10/2004; Publisher: Altium Hobart Technology Center
pins: ADDR[5..0] (in), CLK (in), DIN[7..0] (in), DOUT[7..0] (out), EN (in), WE (in)

## RAMSE_8x64K
designator U?
Single Port RAM, Enable; Memory_Depth: 65536; Memory_Type: RAM_SinglePortBlock; Memory_Width: 8; Memory_ClockEdge: Rising; Nexus_Core: Memory_Program; Memory_EnablePin: True; Memory_ByteWrites: False; Published: 11/10/2004; Publisher: Altium Hobart Technology Center
pins: ADDR[15..0] (in), CLK (in), DIN[7..0] (in), DOUT[7..0] (out), EN (in), WE (in)

## RAMSE_8x128
designator U?
Single Port RAM, Enable; Memory_Depth: 128; Memory_Type: RAM_SinglePortBlock; Memory_Width: 8; Memory_ClockEdge: Rising; Nexus_Core: Memory_Program; Memory_EnablePin: True; Memory_ByteWrites: False; Published: 11/10/2004; Publisher: Altium Hobart Technology Center
pins: ADDR[6..0] (in), CLK (in), DIN[7..0] (in), DOUT[7..0] (out), EN (in), WE (in)

## RAMSE_8x256
designator U?
Single Port RAM, Enable; Memory_Depth: 256; Memory_Type: RAM_SinglePortBlock; Memory_Width: 8; Memory_ClockEdge: Rising; Nexus_Core: Memory_Program; Memory_EnablePin: True; Memory_ByteWrites: False; Published: 11/10/2004; Publisher: Altium Hobart Technology Center
pins: ADDR[7..0] (in), CLK (in), DIN[7..0] (in), DOUT[7..0] (out), EN (in), WE (in)

## RAMSE_8x512
designator U?
Single Port RAM, Enable; Memory_Depth: 512; Memory_Type: RAM_SinglePortBlock; Memory_Width: 8; Memory_ClockEdge: Rising; Nexus_Core: Memory_Program; Memory_EnablePin: True; Memory_ByteWrites: False; Published: 11/10/2004; Publisher: Altium Hobart Technology Center
pins: ADDR[8..0] (in), CLK (in), DIN[7..0] (in), DOUT[7..0] (out), EN (in), WE (in)

## RAMSE_12x1K
designator U?
Single Port RAM, Enable; Memory_Depth: 1024; Memory_Type: RAM_SinglePortBlock; Memory_Width: 12; Memory_ClockEdge: Rising; Nexus_Core: Memory_Program; Memory_EnablePin: True; Memory_ByteWrites: False; Published: 11/10/2004; Publisher: Altium Hobart Technology Center
pins: ADDR[9..0] (in), CLK (in), DIN[11..0] (in), DOUT[11..0] (out), EN (in), WE (in)

## RAMSE_12x2K
designator U?
Single Port RAM, Enable; Memory_Depth: 2048; Memory_Type: RAM_SinglePortBlock; Memory_Width: 12; Memory_ClockEdge: Rising; Nexus_Core: Memory_Program; Memory_EnablePin: True; Memory_ByteWrites: False; Published: 11/10/2004; Publisher: Altium Hobart Technology Center
pins: ADDR[10..0] (in), CLK (in), DIN[11..0] (in), DOUT[11..0] (out), EN (in), WE (in)

## RAMSE_12x4
designator U?
Single Port RAM, Enable; Memory_Depth: 4; Memory_Type: RAM_SinglePortBlock; Memory_Width: 12; Memory_ClockEdge: Rising; Nexus_Core: Memory_Program; Memory_EnablePin: True; Memory_ByteWrites: False; Published: 11/10/2004; Publisher: Altium Hobart Technology Center
pins: ADDR[1..0] (in), CLK (in), DIN[11..0] (in), DOUT[11..0] (out), EN (in), WE (in)

## RAMSE_12x4K
designator U?
Single Port RAM, Enable; Memory_Depth: 4096; Memory_Type: RAM_SinglePortBlock; Memory_Width: 12; Memory_ClockEdge: Rising; Nexus_Core: Memory_Program; Memory_EnablePin: True; Memory_ByteWrites: False; Published: 11/10/2004; Publisher: Altium Hobart Technology Center
pins: ADDR[11..0] (in), CLK (in), DIN[11..0] (in), DOUT[11..0] (out), EN (in), WE (in)

## RAMSE_12x8
designator U?
Single Port RAM, Enable; Memory_Depth: 8; Memory_Type: RAM_SinglePortBlock; Memory_Width: 12; Memory_ClockEdge: Rising; Nexus_Core: Memory_Program; Memory_EnablePin: True; Memory_ByteWrites: False; Published: 11/10/2004; Publisher: Altium Hobart Technology Center
pins: ADDR[2..0] (in), CLK (in), DIN[11..0] (in), DOUT[11..0] (out), EN (in), WE (in)

## RAMSE_12x8K
designator U?
Single Port RAM, Enable; Memory_Depth: 8192; Memory_Type: RAM_SinglePortBlock; Memory_Width: 12; Memory_ClockEdge: Rising; Nexus_Core: Memory_Program; Memory_EnablePin: True; Memory_ByteWrites: False; Published: 11/10/2004; Publisher: Altium Hobart Technology Center
pins: ADDR[12..0] (in), CLK (in), DIN[11..0] (in), DOUT[11..0] (out), EN (in), WE (in)

## RAMSE_12x16
designator U?
Single Port RAM, Enable; Memory_Depth: 16; Memory_Type: RAM_SinglePortBlock; Memory_Width: 12; Memory_ClockEdge: Rising; Nexus_Core: Memory_Program; Memory_EnablePin: True; Memory_ByteWrites: False; Published: 11/10/2004; Publisher: Altium Hobart Technology Center
pins: ADDR[3..0] (in), CLK (in), DIN[11..0] (in), DOUT[11..0] (out), EN (in), WE (in)

## RAMSE_12x16K
designator U?
Single Port RAM, Enable; Memory_Depth: 16384; Memory_Type: RAM_SinglePortBlock; Memory_Width: 12; Memory_ClockEdge: Rising; Nexus_Core: Memory_Program; Memory_EnablePin: True; Memory_ByteWrites: False; Published: 11/10/2004; Publisher: Altium Hobart Technology Center
pins: ADDR[13..0] (in), CLK (in), DIN[11..0] (in), DOUT[11..0] (out), EN (in), WE (in)

## RAMSE_12x32
designator U?
Single Port RAM, Enable; Memory_Depth: 32; Memory_Type: RAM_SinglePortBlock; Memory_Width: 12; Memory_ClockEdge: Rising; Nexus_Core: Memory_Program; Memory_EnablePin: True; Memory_ByteWrites: False; Published: 11/10/2004; Publisher: Altium Hobart Technology Center
pins: ADDR[4..0] (in), CLK (in), DIN[11..0] (in), DOUT[11..0] (out), EN (in), WE (in)

## RAMSE_12x32K
designator U?
Single Port RAM, Enable; Memory_Depth: 32768; Memory_Type: RAM_SinglePortBlock; Memory_Width: 12; Memory_ClockEdge: Rising; Nexus_Core: Memory_Program; Memory_EnablePin: True; Memory_ByteWrites: False; Published: 11/10/2004; Publisher: Altium Hobart Technology Center
pins: ADDR[14..0] (in), CLK (in), DIN[11..0] (in), DOUT[11..0] (out), EN (in), WE (in)

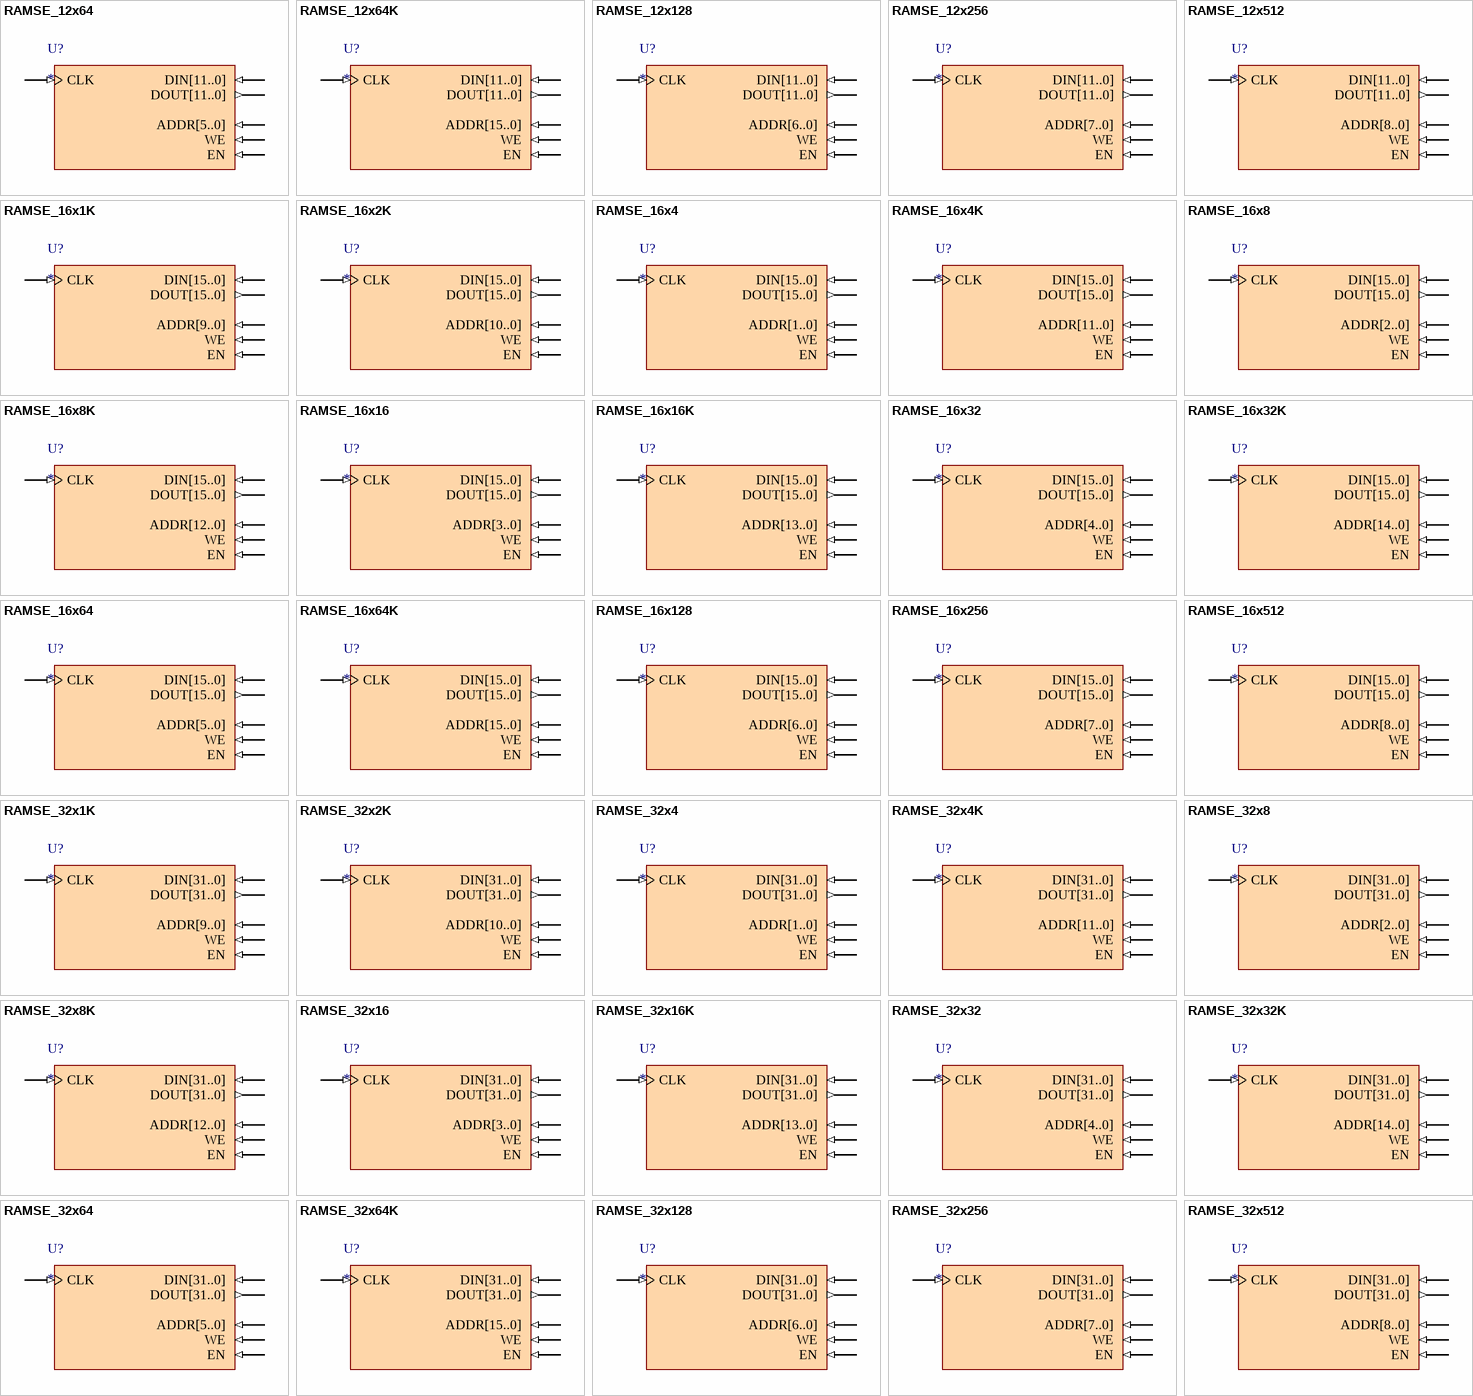
[diagram p11: symbols RAMSE_12x64 to RAMSE_32x512]

## RAMSE_12x64
designator U?
Single Port RAM, Enable; Memory_Depth: 64; Memory_Type: RAM_SinglePortBlock; Memory_Width: 12; Memory_ClockEdge: Rising; Nexus_Core: Memory_Program; Memory_EnablePin: True; Memory_ByteWrites: False; Published: 11/10/2004; Publisher: Altium Hobart Technology Center
pins: ADDR[5..0] (in), CLK (in), DIN[11..0] (in), DOUT[11..0] (out), EN (in), WE (in)

## RAMSE_12x64K
designator U?
Single Port RAM, Enable; Memory_Depth: 65536; Memory_Type: RAM_SinglePortBlock; Memory_Width: 12; Memory_ClockEdge: Rising; Nexus_Core: Memory_Program; Memory_EnablePin: True; Memory_ByteWrites: False; Published: 11/10/2004; Publisher: Altium Hobart Technology Center
pins: ADDR[15..0] (in), CLK (in), DIN[11..0] (in), DOUT[11..0] (out), EN (in), WE (in)

## RAMSE_12x128
designator U?
Single Port RAM, Enable; Memory_Depth: 128; Memory_Type: RAM_SinglePortBlock; Memory_Width: 12; Memory_ClockEdge: Rising; Nexus_Core: Memory_Program; Memory_EnablePin: True; Memory_ByteWrites: False; Published: 11/10/2004; Publisher: Altium Hobart Technology Center
pins: ADDR[6..0] (in), CLK (in), DIN[11..0] (in), DOUT[11..0] (out), EN (in), WE (in)

## RAMSE_12x256
designator U?
Single Port RAM, Enable; Memory_Depth: 256; Memory_Type: RAM_SinglePortBlock; Memory_Width: 12; Memory_ClockEdge: Rising; Nexus_Core: Memory_Program; Memory_EnablePin: True; Memory_ByteWrites: False; Published: 11/10/2004; Publisher: Altium Hobart Technology Center
pins: ADDR[7..0] (in), CLK (in), DIN[11..0] (in), DOUT[11..0] (out), EN (in), WE (in)

## RAMSE_12x512
designator U?
Single Port RAM, Enable; Memory_Depth: 512; Memory_Type: RAM_SinglePortBlock; Memory_Width: 12; Memory_ClockEdge: Rising; Nexus_Core: Memory_Program; Memory_EnablePin: True; Memory_ByteWrites: False; Published: 11/10/2004; Publisher: Altium Hobart Technology Center
pins: ADDR[8..0] (in), CLK (in), DIN[11..0] (in), DOUT[11..0] (out), EN (in), WE (in)

## RAMSE_16x1K
designator U?
Single Port RAM, Enable; Memory_Depth: 1024; Memory_Type: RAM_SinglePortBlock; Memory_Width: 16; Memory_ClockEdge: Rising; Nexus_Core: Memory_Program; Memory_EnablePin: True; Memory_ByteWrites: False; Published: 11/10/2004; Publisher: Altium Hobart Technology Center
pins: ADDR[9..0] (in), CLK (in), DIN[15..0] (in), DOUT[15..0] (out), EN (in), WE (in)

## RAMSE_16x2K
designator U?
Single Port RAM, Enable; Memory_Depth: 2048; Memory_Type: RAM_SinglePortBlock; Memory_Width: 16; Memory_ClockEdge: Rising; Nexus_Core: Memory_Program; Memory_EnablePin: True; Memory_ByteWrites: False; Published: 11/10/2004; Publisher: Altium Hobart Technology Center
pins: ADDR[10..0] (in), CLK (in), DIN[15..0] (in), DOUT[15..0] (out), EN (in), WE (in)

## RAMSE_16x4
designator U?
Single Port RAM, Enable; Memory_Depth: 4; Memory_Type: RAM_SinglePortBlock; Memory_Width: 16; Memory_ClockEdge: Rising; Nexus_Core: Memory_Program; Memory_EnablePin: True; Memory_ByteWrites: False; Published: 11/10/2004; Publisher: Altium Hobart Technology Center
pins: ADDR[1..0] (in), CLK (in), DIN[15..0] (in), DOUT[15..0] (out), EN (in), WE (in)

## RAMSE_16x4K
designator U?
Single Port RAM, Enable; Memory_Depth: 4096; Memory_Type: RAM_SinglePortBlock; Memory_Width: 16; Memory_ClockEdge: Rising; Nexus_Core: Memory_Program; Memory_EnablePin: True; Memory_ByteWrites: False; Published: 11/10/2004; Publisher: Altium Hobart Technology Center
pins: ADDR[11..0] (in), CLK (in), DIN[15..0] (in), DOUT[15..0] (out), EN (in), WE (in)

## RAMSE_16x8
designator U?
Single Port RAM, Enable; Memory_Depth: 8; Memory_Type: RAM_SinglePortBlock; Memory_Width: 16; Memory_ClockEdge: Rising; Nexus_Core: Memory_Program; Memory_EnablePin: True; Memory_ByteWrites: False; Published: 11/10/2004; Publisher: Altium Hobart Technology Center
pins: ADDR[2..0] (in), CLK (in), DIN[15..0] (in), DOUT[15..0] (out), EN (in), WE (in)

## RAMSE_16x8K
designator U?
Single Port RAM, Enable; Memory_Depth: 8192; Memory_Type: RAM_SinglePortBlock; Memory_Width: 16; Memory_ClockEdge: Rising; Nexus_Core: Memory_Program; Memory_EnablePin: True; Memory_ByteWrites: False; Published: 11/10/2004; Publisher: Altium Hobart Technology Center
pins: ADDR[12..0] (in), CLK (in), DIN[15..0] (in), DOUT[15..0] (out), EN (in), WE (in)

## RAMSE_16x16
designator U?
Single Port RAM, Enable; Memory_Depth: 16; Memory_Type: RAM_SinglePortBlock; Memory_ClockEdge: Rising; Nexus_Core: Memory_Program; Memory_EnablePin: True; Memory_ByteWrites: False; Published: 11/10/2004; Publisher: Altium Hobart Technology Center; Memory_Width: 16
pins: ADDR[3..0] (in), CLK (in), DIN[15..0] (in), DOUT[15..0] (out), EN (in), WE (in)

## RAMSE_16x16K
designator U?
Single Port RAM, Enable; Memory_Depth: 16384; Memory_Type: RAM_SinglePortBlock; Memory_Width: 16; Memory_ClockEdge: Rising; Nexus_Core: Memory_Program; Memory_EnablePin: True; Memory_ByteWrites: False; Published: 11/10/2004; Publisher: Altium Hobart Technology Center
pins: ADDR[13..0] (in), CLK (in), DIN[15..0] (in), DOUT[15..0] (out), EN (in), WE (in)

## RAMSE_16x32
designator U?
Single Port RAM, Enable; Memory_Depth: 32; Memory_Type: RAM_SinglePortBlock; Memory_Width: 16; Memory_ClockEdge: Rising; Nexus_Core: Memory_Program; Memory_EnablePin: True; Memory_ByteWrites: False; Published: 11/10/2004; Publisher: Altium Hobart Technology Center
pins: ADDR[4..0] (in), CLK (in), DIN[15..0] (in), DOUT[15..0] (out), EN (in), WE (in)

## RAMSE_16x32K
designator U?
Single Port RAM, Enable; Memory_Depth: 32768; Memory_Type: RAM_SinglePortBlock; Memory_Width: 16; Memory_ClockEdge: Rising; Nexus_Core: Memory_Program; Memory_EnablePin: True; Memory_ByteWrites: False; Published: 11/10/2004; Publisher: Altium Hobart Technology Center
pins: ADDR[14..0] (in), CLK (in), DIN[15..0] (in), DOUT[15..0] (out), EN (in), WE (in)

## RAMSE_16x64
designator U?
Single Port RAM, Enable; Memory_Depth: 64; Memory_Type: RAM_SinglePortBlock; Memory_Width: 16; Memory_ClockEdge: Rising; Nexus_Core: Memory_Program; Memory_EnablePin: True; Memory_ByteWrites: False; Published: 11/10/2004; Publisher: Altium Hobart Technology Center
pins: ADDR[5..0] (in), CLK (in), DIN[15..0] (in), DOUT[15..0] (out), EN (in), WE (in)

## RAMSE_16x64K
designator U?
Single Port RAM, Enable; Memory_Depth: 65536; Memory_Type: RAM_SinglePortBlock; Memory_Width: 16; Memory_ClockEdge: Rising; Nexus_Core: Memory_Program; Memory_EnablePin: True; Memory_ByteWrites: False; Published: 11/10/2004; Publisher: Altium Hobart Technology Center
pins: ADDR[15..0] (in), CLK (in), DIN[15..0] (in), DOUT[15..0] (out), EN (in), WE (in)

## RAMSE_16x128
designator U?
Single Port RAM, Enable; Memory_Depth: 128; Memory_Type: RAM_SinglePortBlock; Memory_Width: 16; Memory_ClockEdge: Rising; Nexus_Core: Memory_Program; Memory_EnablePin: True; Memory_ByteWrites: False; Published: 11/10/2004; Publisher: Altium Hobart Technology Center
pins: ADDR[6..0] (in), CLK (in), DIN[15..0] (in), DOUT[15..0] (out), EN (in), WE (in)

## RAMSE_16x256
designator U?
Single Port RAM, Enable; Memory_Depth: 256; Memory_Type: RAM_SinglePortBlock; Memory_Width: 16; Memory_ClockEdge: Rising; Nexus_Core: Memory_Program; Memory_EnablePin: True; Memory_ByteWrites: False; Published: 11/10/2004; Publisher: Altium Hobart Technology Center
pins: ADDR[7..0] (in), CLK (in), DIN[15..0] (in), DOUT[15..0] (out), EN (in), WE (in)

## RAMSE_16x512
designator U?
Single Port RAM, Enable; Memory_Depth: 512; Memory_Type: RAM_SinglePortBlock; Memory_Width: 16; Memory_ClockEdge: Rising; Nexus_Core: Memory_Program; Memory_EnablePin: True; Memory_ByteWrites: False; Published: 11/10/2004; Publisher: Altium Hobart Technology Center
pins: ADDR[8..0] (in), CLK (in), DIN[15..0] (in), DOUT[15..0] (out), EN (in), WE (in)

## RAMSE_32x1K
designator U?
Single Port RAM, Enable; Memory_Depth: 1024; Memory_Type: RAM_SinglePortBlock; Memory_Width: 32; Memory_ClockEdge: Rising; Nexus_Core: Memory_Program; Memory_EnablePin: True; Memory_ByteWrites: False; Published: 11/10/2004; Publisher: Altium Hobart Technology Center
pins: ADDR[9..0] (in), CLK (in), DIN[31..0] (in), DOUT[31..0] (out), EN (in), WE (in)

## RAMSE_32x2K
designator U?
Single Port RAM, Enable; Memory_Depth: 2048; Memory_Type: RAM_SinglePortBlock; Memory_Width: 32; Memory_ClockEdge: Rising; Nexus_Core: Memory_Program; Memory_EnablePin: True; Memory_ByteWrites: False; Published: 11/10/2004; Publisher: Altium Hobart Technology Center
pins: ADDR[10..0] (in), CLK (in), DIN[31..0] (in), DOUT[31..0] (out), EN (in), WE (in)

## RAMSE_32x4
designator U?
Single Port RAM, Enable; Memory_Depth: 4; Memory_Type: RAM_SinglePortBlock; Memory_Width: 32; Memory_ClockEdge: Rising; Nexus_Core: Memory_Program; Memory_EnablePin: True; Memory_ByteWrites: False; Published: 11/10/2004; Publisher: Altium Hobart Technology Center
pins: ADDR[1..0] (in), CLK (in), DIN[31..0] (in), DOUT[31..0] (out), EN (in), WE (in)

## RAMSE_32x4K
designator U?
Single Port RAM, Enable; Memory_Depth: 4096; Memory_Type: RAM_SinglePortBlock; Memory_Width: 32; Memory_ClockEdge: Rising; Nexus_Core: Memory_Program; Memory_EnablePin: True; Memory_ByteWrites: False; Published: 11/10/2004; Publisher: Altium Hobart Technology Center
pins: ADDR[11..0] (in), CLK (in), DIN[31..0] (in), DOUT[31..0] (out), EN (in), WE (in)

## RAMSE_32x8
designator U?
Single Port RAM, Enable; Memory_Depth: 8; Memory_Type: RAM_SinglePortBlock; Memory_Width: 32; Memory_ClockEdge: Rising; Nexus_Core: Memory_Program; Memory_EnablePin: True; Memory_ByteWrites: False; Published: 11/10/2004; Publisher: Altium Hobart Technology Center
pins: ADDR[2..0] (in), CLK (in), DIN[31..0] (in), DOUT[31..0] (out), EN (in), WE (in)

## RAMSE_32x8K
designator U?
Single Port RAM, Enable; Memory_Depth: 8192; Memory_Type: RAM_SinglePortBlock; Memory_Width: 32; Memory_ClockEdge: Rising; Nexus_Core: Memory_Program; Memory_EnablePin: True; Memory_ByteWrites: False; Published: 11/10/2004; Publisher: Altium Hobart Technology Center
pins: ADDR[12..0] (in), CLK (in), DIN[31..0] (in), DOUT[31..0] (out), EN (in), WE (in)

## RAMSE_32x16
designator U?
Single Port RAM, Enable; Memory_Depth: 16; Memory_Type: RAM_SinglePortBlock; Memory_Width: 32; Memory_ClockEdge: Rising; Nexus_Core: Memory_Program; Memory_EnablePin: True; Memory_ByteWrites: False; Published: 11/10/2004; Publisher: Altium Hobart Technology Center
pins: ADDR[3..0] (in), CLK (in), DIN[31..0] (in), DOUT[31..0] (out), EN (in), WE (in)

## RAMSE_32x16K
designator U?
Single Port RAM, Enable; Memory_Depth: 16384; Memory_Type: RAM_SinglePortBlock; Memory_Width: 32; Memory_ClockEdge: Rising; Nexus_Core: Memory_Program; Memory_EnablePin: True; Memory_ByteWrites: False; Published: 11/10/2004; Publisher: Altium Hobart Technology Center
pins: ADDR[13..0] (in), CLK (in), DIN[31..0] (in), DOUT[31..0] (out), EN (in), WE (in)

## RAMSE_32x32
designator U?
Single Port RAM, Enable; Memory_Depth: 32; Memory_Type: RAM_SinglePortBlock; Memory_ClockEdge: Rising; Nexus_Core: Memory_Program; Memory_EnablePin: True; Memory_ByteWrites: False; Published: 11/10/2004; Publisher: Altium Hobart Technology Center; Memory_Width: 32
pins: ADDR[4..0] (in), CLK (in), DIN[31..0] (in), DOUT[31..0] (out), EN (in), WE (in)

## RAMSE_32x32K
designator U?
Single Port RAM, Enable; Memory_Depth: 32768; Memory_Type: RAM_SinglePortBlock; Memory_Width: 32; Memory_ClockEdge: Rising; Nexus_Core: Memory_Program; Memory_EnablePin: True; Memory_ByteWrites: False; Published: 11/10/2004; Publisher: Altium Hobart Technology Center
pins: ADDR[14..0] (in), CLK (in), DIN[31..0] (in), DOUT[31..0] (out), EN (in), WE (in)

## RAMSE_32x64
designator U?
Single Port RAM, Enable; Memory_Depth: 64; Memory_Type: RAM_SinglePortBlock; Memory_Width: 32; Memory_ClockEdge: Rising; Nexus_Core: Memory_Program; Memory_EnablePin: True; Memory_ByteWrites: False; Published: 11/10/2004; Publisher: Altium Hobart Technology Center
pins: ADDR[5..0] (in), CLK (in), DIN[31..0] (in), DOUT[31..0] (out), EN (in), WE (in)